# Altium schematic symbol library thesis.SchLib: 33 symbols
Pins are listed as number, name and electrical type; pins without a type are passive.

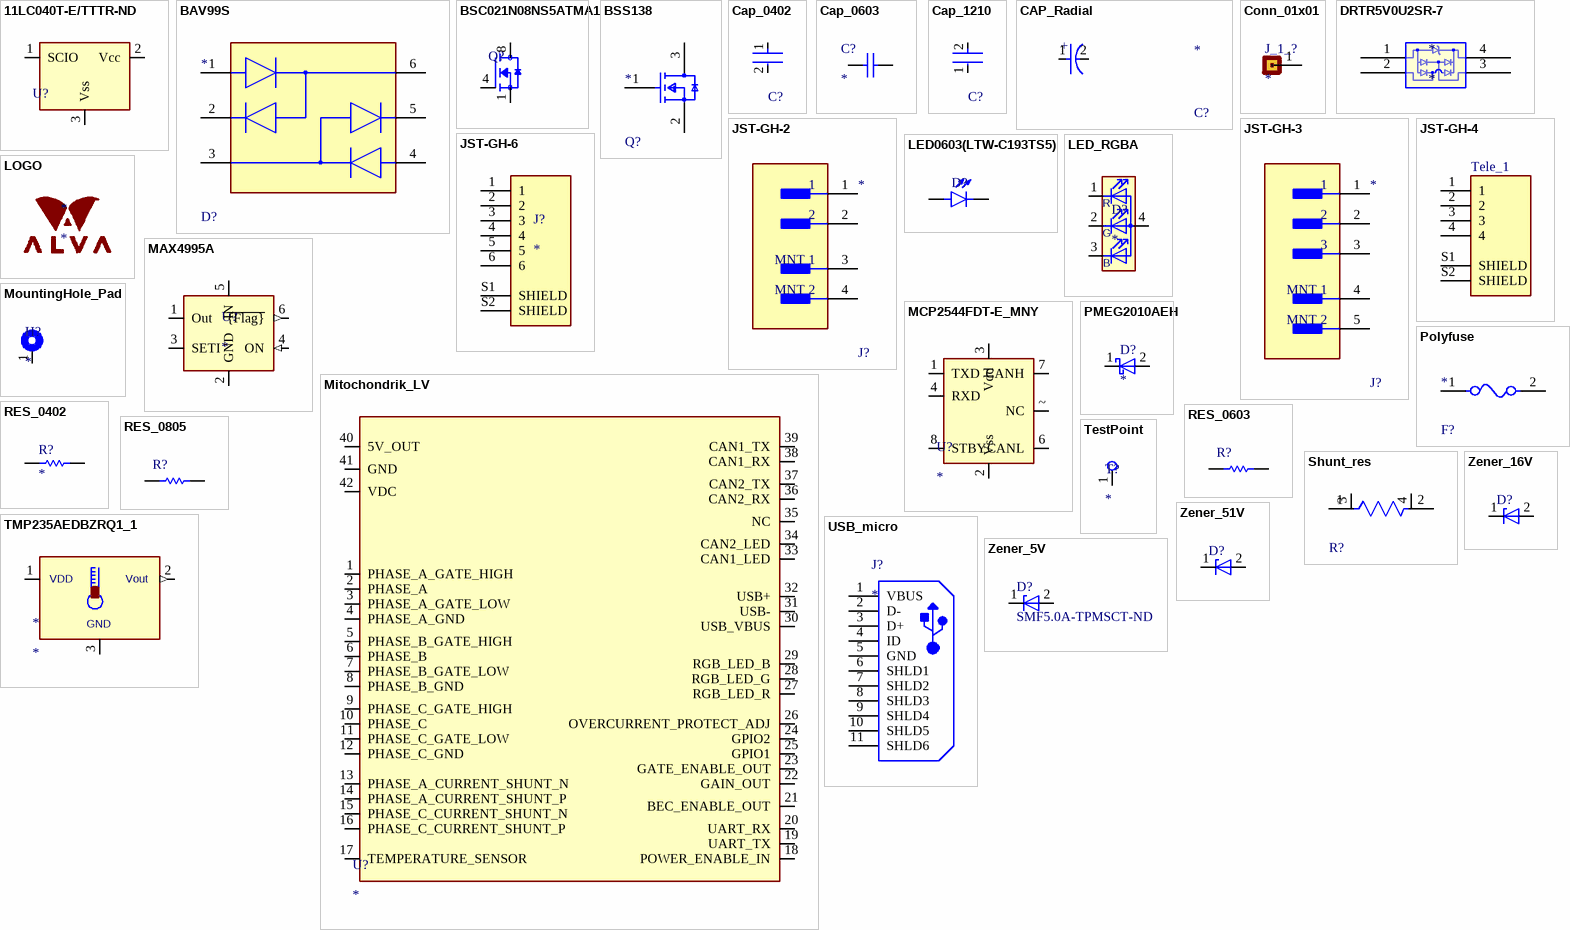
[diagram p0: symbols 11LC040T-E/TTTR-ND to Zener_51V]

## 11LC040T-E/TTTR-ND
designator U?  (value not drawn)
EEPROM, 512X8, Serial, CMOS, PDSO3; Manufacturer: Microchip; Manufacturer Part Number: 11LC040T-E/TT; Package Body Material: Plastic; Clock Frequency-Max (fCLK): 1MHz; Data Retention Time-Min: 200; Endurance: 1000000Cycles; Density: 4096b; Memory Width: 8; Number of Functions: 1; Number of Words: 512; Operating Mode: SYNCHRONOUS; Package Equivalence Code: TO-236; Power Supplies: 3/5V; Serial Bus Type: 1-WIRE; Standby Current-Max: 5uA; Supply Voltage-Max (Vsup): 5.5V; Supply Voltage-Min (Vsup): 2.5V; Supply Voltage-Nom (Vsup): 5V; Time @ Peak Reflow Temperature-Max (s): 40s; Write Cycle Time-Max (tWC): 10ms; Write Protection: SOFTWARE; Qualification Status: Not Qualified; Supplier 1: Digi-Key; RoHS: Yes; Category: EEPROM; Pricing 1: 1=0,36000 (USD); Package Code: TSSOP; Number of Pins: 3; Package Shape: Rectangular; Terminal Finish: Tin; Min Operating Temperature: -40°C; Max Operating Temperature: 125°C; JESD-609 Code: e3; Memory Type: EEPROM; JESD-30 Code: R-PDSO-G3; Moisture Sensitivity Level: 1; Organization: 512X8; Package Style: SMALL OUTLINE, THIN PROFILE, SHRINK PITCHMeter; Parallel/Serial: SERIAL; Peak Reflow Temperature (Cel): 260°C; Max Supply Current: 5uA; Surface Mount: Yes; Technology: CMOS; Terminal Form: Gull Wing; Terminal Position: DUAL; Length: 2.9mm; Width: 1.3mm; Height - Seated (Max): 1.12mm; Terminal Pitch: 0.95mm; Temperature Grade: AUTOMOTIVE; REACH SVHC: Yes; RoHS Compliant: Yes; ComponentLink1URL: https://datasheet.ciiva.com:443/pdfs/VipMasterIC/IC/MCHP/MCHPS03438/MCHPS03438-1.pdf?src-supplier=IHS+Markit; ComponentLink1Description: https://datasheet.ciiva.com:443/pdfs/VipMasterIC/IC/MCHP/MCHPS03438/MCHPS03438-1.pdf?src-supplier=IHS+Markit; ComponentLink2URL: https://datasheet.ciiva.com/1909/ds-22067h-1909327.pdf?src-supplier=Digi-Key; ComponentLink2Description: https://datasheet.ciiva.com/1909/ds-22067h-1909327.pdf?src-supplier=Digi-Key; Supplier Part Number 1: 11LC040T-E/TTDKR-ND
footprint 11LC040T-E/TTTR-ND (SOT23-3)
pins: 1 SCIO, 2 Vcc, 3 Vss

## BAV99S
designator D?
Rectifier Diode, 4 Element, 0.2A, 85V V(RRM), Silicon; Manufacturer: Infineon; Manufacturer Part Number: BAV99S; Package Body Material: Plastic; Number of Elements: 4; Max Output Current: 200mA; Max Power Dissipation: 250mW; Reverse Recovery Time-Max: 0.004us; Forward Voltage-Max (VF): 1.25V; Max Reverse Current: 2.5uA; Reverse Test Voltage: 70V; Qualification Status: Not Qualified; Supplier 1: Digi-Key; RoHS: Yes; Category: Rectifier Diodes; Pricing 1: 1=0,50000, 10=0,37900, 100=0,23600, 500=0,16146, 1000=0,12420 (USD); Number of Pins: 6; Diode Element Material: SILICON; Package Shape: Rectangular; Terminal Finish: Tin; Min Operating Temperature: -65°C; Max Operating Temperature: 150°C; JESD-609 Code: e3; Diode Type: RECTIFIER; JESD-30 Code: R-PDSO-G6; Package Style: SMALL OUTLINEMeter; Rep Pk Reverse Voltage-Max: 85V; Surface Mount: Yes; Terminal Form: Gull Wing; Terminal Position: DUAL; Moisture Sensitivity Level: 1; Peak Reflow Temperature (Cel): 260°C; REACH SVHC: Yes; RoHS Compliant: Yes; ComponentLink1URL: https://datasheet.ciiva.com:443/pdfs/VipMasterIC/IC/INFN/INFNS11225/INFNS11225-1.pdf?src-supplier=IHS+Markit; ComponentLink1Description: https://datasheet.ciiva.com:443/pdfs/VipMasterIC/IC/INFN/INFNS11225/INFNS11225-1.pdf?src-supplier=IHS+Markit; ComponentLink2URL: https://datasheet.ciiva.com/5833/45911-5833673.pdf?src-supplier=Farnell; ComponentLink2Description: https://datasheet.ciiva.com/5833/45911-5833673.pdf?src-supplier=Farnell; ComponentLink3URL: https://datasheet.ciiva.com/1180/45911-1180780.pdf?src-supplier=Element14; ComponentLink3Description: https://datasheet.ciiva.com/1180/45911-1180780.pdf?src-supplier=Element14; Supplier Part Number 1: BAV99SH6327XTSA1DKR-ND
footprint BAV99S
pins: 1 anode(diode 1), 2 cathode(diode 2), 3 cathode(diode 3)/anode(diode 4), 4 anode(diode 3), 5 cathode(diode 4), 6 cathode(diode 1)/anode(diode 2)

## BSC021N08NS5ATMA1
designator Q?  (value not drawn)
N-Channel 80V 100A (Tc) 214W (Tc) Surface Mount PG-TSON-8-3; Manufacturer: Infineon; Manufacturer Part Number: BSC021N08NS5ATMA1; Supplier 1: Digi-Key; RoHS: No; Pricing 1: 1=5,19000, 10=4,65800, 100=3,81650, 500=3,26200 (USD); Supplier Part Number 1: 448-BSC021N08NS5ATMA1CT-ND
footprint BSC021N08NS5ATMA1 (Mosfet_esc)
footprint BSC021N08NS5ATMA1 - duplicate (Mosfet_esc)
pins: 1 S, 4 G, 8 D

## BSS138
designator Q?
Small Signal Field-Effect Transistor, 0.28A I(D), 60V, 1-Element, N-Channel, Silicon, Metal-oxide Semiconductor FET; Manufacturer: Infineon; Manufacturer Part Number: BSS138WH6433XTMA1; Package Body Material: Plastic; Drain Current-Max (ID): 280mA; Drain-source On Resistance-Max: 3.5R; Feedback Cap-Max (Crss): 4.2pF; Number of Elements: 1; Operating Mode: ENHANCEMENT MODE; Reference Standard: AEC-Q101; Supplier 1: Digi-Key; RoHS: Yes; Category: MOSFETs; Stock 1: 10000; Pricing 1: 1=0,44000, 10=0,32800, 100=0,18590, 500=0,12312, 1000=0,09439, 2000=0,08208, 5000=0,07387 (USD); Number of Pins: 3; Package Shape: Rectangular; Transistor Element Material: SILICON; Polarity/Channel Type: N-CHANNEL; DS Breakdown Voltage-Min: 60V; FET Technology: METAL-OXIDE SEMICONDUCTOR; JESD-30 Code: R-PDSO-G3; Package Style: SMALL OUTLINEMeter; Surface Mount: Yes; Terminal Form: Gull Wing; Terminal Position: DUAL; REACH SVHC: Yes; RoHS Compliant: Yes; ComponentLink1URL: https://datasheet.ciiva.com:443/pdfs/VipMasterIC/IC/INFN/INFNS17556/INFNS17556-1.pdf?src-supplier=IHS+Markit; ComponentLink1Description: https://datasheet.ciiva.com:443/pdfs/VipMasterIC/IC/INFN/INFNS17556/INFNS17556-1.pdf?src-supplier=IHS+Markit; ComponentLink2URL: https://datasheet.ciiva.com/11174/infineon-bss138w-ds-v02-43-en-11174480.pdf?src-supplier=Avnet; ComponentLink2Description: https://datasheet.ciiva.com/11174/infineon-bss138w-ds-v02-43-en-11174480.pdf?src-supplier=Avnet; Supplier Part Number 1: BSS138WH6433XTMA1CT-ND
footprint BSS138
pins: 1 G, 2 S, 3 D

## Cap_0402
designator C?  (value not drawn)
Capacitor
footprint Cap_0402
pins: 1, 2

## Cap_0603
designator C?
Chip Capacitor
footprint CAP_0603
pins: 1, 2

## Cap_1210
designator C?  (value not drawn)
Capacitor
footprint Cap_1210
pins: 1, 2

## CAP_Radial
designator C?
Aluminum Electrolytic Capacitor, Polarized, Aluminum (wet), 63V, 20% +Tol, 20% -Tol, 470uF, Through Hole Mount; Manufacturer: Panasonic; Manufacturer Part Number: ECA1JM471; Dielectric Material: Aluminium; Leakage Current: 296.1uA; Ripple Current: 750mA; Tan Delta: 0.11; Supplier 1: Digi-Key; RoHS: Yes; Category: Aluminum Electrolytic Capacitors; Pricing 1: 1=1,05000, 10=0,79500, 50=0,66020, 100=0,56850, 500=0,44010, 1000=0,37898, 2500=0,35452, 5000=0,33619 (USD); Mount: Through Hole; Number of Pins: 2; Package Shape: Cylindrical; Terminal Finish: Tin; Min Operating Temperature: -40°C; Max Operating Temperature: 85°C; JESD-609 Code: e3; Polarity: Polarized; Capacitance: 470uF; Capacitor Type: Aluminium; Negative Tolerance: 20%; Package Style: RadialMeter; Packaging: Bulk; Positive Tolerance: 20%; Rated DC Voltage (URdc): 63V; Termination: Wire; Diameter: 12.5mm; Length: 20mm; Terminal Pitch: 5mm; REACH SVHC: Yes; RoHS Compliant: Yes; ComponentLink1URL: https://datasheet.ciiva.com:443/pdfs/VipMasterIC/IC/PANA/PANA-S-A0009459698/PANA-S-A0009459698-1.pdf?src-supplier=IHS+Markit; ComponentLink1Description: https://datasheet.ciiva.com:443/pdfs/VipMasterIC/IC/PANA/PANA-S-A0009459698/PANA-S-A0009459698-1.pdf?src-supplier=IHS+Markit; ComponentLink2URL: https://datasheet.ciiva.com/11778/0900766b800274c2-11778050.pdf?src-supplier=RSComponents; ComponentLink2Description: https://datasheet.ciiva.com/11778/0900766b800274c2-11778050.pdf?src-supplier=RSComponents; ComponentLink3URL: https://datasheet.ciiva.com/48520/radial-m-eng-tds-48520521.pdf?src-supplier=Distrelec; ComponentLink3Description: https://datasheet.ciiva.com/48520/radial-m-eng-tds-48520521.pdf?src-supplier=Distrelec; ComponentLink4URL: https://datasheet.ciiva.com/14604/70067785-14604554.pdf?src-supplier=Allied+Electronics; ComponentLink4Description: https://datasheet.ciiva.com/14604/70067785-14604554.pdf?src-supplier=Allied+Electronics; ComponentLink5URL: https://datasheet.ciiva.com/43485/84340-43485354.pdf?src-supplier=Farnell; ComponentLink5Description: https://datasheet.ciiva.com/43485/84340-43485354.pdf?src-supplier=Farnell; ComponentLink6URL: https://datasheet.ciiva.com/46396/84340-46396590.pdf?src-supplier=Element14; ComponentLink6Description: https://datasheet.ciiva.com/46396/84340-46396590.pdf?src-supplier=Element14; ComponentLink7URL: https://datasheet.ciiva.com/11679/aba0000ce12-11679422.pdf?src-supplier=Avnet; ComponentLink7Description: https://datasheet.ciiva.com/11679/aba0000ce12-11679422.pdf?src-supplier=Avnet; ComponentLink8URL: https://datasheet.ciiva.com/16213/aba0000ce12-16213261.pdf?src-supplier=Future+Electronics; ComponentLink8Description: https://datasheet.ciiva.com/16213/aba0000ce12-16213261.pdf?src-supplier=Future+Electronics; Supplier Part Number 1: P5196-ND
footprint Cap_alu_liggende (12.5mm Diameter)
footprint Cap_radial
pins: 1, 2
text: +

## Conn_01x01
designator J_1_?
Connector 01x01
footprint Conn_01x01
pins: 1

## DRTR5V0U2SR-7
designator *
Trans Voltage Suppressor Diode, 5.5V V(RWM), Unidirectional, 1 Element, Silicon; Manufacturer: Diodes; Manufacturer Part Number: DRTR5V0U2SR-7; Package Body Material: Plastic; Max Breakdown Voltage: 9V; Min Breakdown Voltage: 6V; Number of Elements: 1; Max Power Dissipation: 400mW; Additional Feature: HIGH RELIABILITY; Reference Standard: AEC-Q101; Supplier 1: Digi-Key; RoHS: Yes; Category: TVS Diodes; Stock 1: 102426; Pricing 1: 1=0,40000, 10=0,32300, 100=0,22000, 500=0,16500, 1000=0,12375 (USD); Number of Pins: 4; Diode Element Material: SILICON; Package Shape: Rectangular; Terminal Finish: Tin; Min Operating Temperature: -65°C; Max Operating Temperature: 150°C; JESD-609 Code: e3; Polarity: Unidirectional; Diode Type: TRANS VOLTAGE SUPPRESSOR; JESD-30 Code: R-PDSO-G4; Moisture Sensitivity Level: 1; Package Style: SMALL OUTLINEMeter; Rep Pk Reverse Voltage-Max: 5.5V; Surface Mount: Yes; Technology: AVALANCHE; Terminal Form: Gull Wing; Terminal Position: DUAL; REACH SVHC: Yes; RoHS Compliant: Yes; ComponentLink1URL: https://datasheet.ciiva.com:443/pdfs/VipMasterIC/IC/DIOD/DIODS20209/DIODS20209-1.pdf?src-supplier=IHS+Markit; ComponentLink1Description: https://datasheet.ciiva.com:443/pdfs/VipMasterIC/IC/DIOD/DIODS20209/DIODS20209-1.pdf?src-supplier=IHS+Markit; ComponentLink2URL: https://datasheet.ciiva.com/29588/drtr5v0u2sr-29588600.pdf?src-supplier=Digi-Key; ComponentLink2Description: https://datasheet.ciiva.com/29588/drtr5v0u2sr-29588600.pdf?src-supplier=Digi-Key; ComponentLink3URL: https://datasheet.ciiva.com/48480/drtr5v0u2sr-48480031.pdf?src-supplier=Avnet; ComponentLink3Description: https://datasheet.ciiva.com/48480/drtr5v0u2sr-48480031.pdf?src-supplier=Avnet; ComponentLink4URL: https://datasheet.ciiva.com/29588/drtr5v0u2sr-29588602.pdf?src-supplier=Digi-Key; ComponentLink4Description: https://datasheet.ciiva.com/29588/drtr5v0u2sr-29588602.pdf?src-supplier=Digi-Key; Supplier Part Number 1: DRTR5V0U2SR-7DICT-ND
footprint DRTR5V0OU2SR-7 (SOT143_DIO)
pins: 1, 2, 3, 4

## JST-GH-2
designator J?
Connector Header, GH Series, 2 Position, 1.25mm, 50V, Surface Mount, Locking Ramp, Natural; Manufacturer: JST; Manufacturer Part Number: BM02B-GHS-TBT(LF)(SN)(N); Supplier 1: Digi-Key; RoHS: Yes; Category: Connectors; Pricing 1: 1=0,40000, 10=0,33900, 100=0,26400, 500=0,22628, 1000=0,18856 (USD); ComponentLink1URL: http://www.jst-mfg.com/product/pdf/eng/eGH.pdf?src-supplier=Digi-Key; ComponentLink1Description: http://www.jst-mfg.com/product/pdf/eng/eGH.pdf?src-supplier=Digi-Key; Supplier Part Number 1: 455-1578-6-ND
footprint JST-GH-2 (FP-BM02B-GHS-TBT_LF_SN-MFG)
pins: 1, 2, 3 MNT 1, 4 MNT 2

## JST-GH-3
designator J?
Connector Header, GH Series, 3 Position, 1.25mm, 50V, Surface Mount, Locking Ramp, Natural; Manufacturer: JST; Manufacturer Part Number: BM03B-GHS-TBT(LF)(SN)(N); Supplier 1: Digi-Key; RoHS: Yes; Category: Connectors; Pricing 1: 1=0,44000, 10=0,37800, 100=0,29400, 500=0,25196, 1000=0,20997 (USD); ComponentLink1URL: https://datasheet.ciiva.com/730/egh-730628.pdf?src-supplier=Digi-Key; ComponentLink1Description: https://datasheet.ciiva.com/730/egh-730628.pdf?src-supplier=Digi-Key; Supplier Part Number 1: 455-1579-1-ND
footprint JST-GH-3 (FP-BM03B-GHS-TBT_LF_SN-MFG)
pins: 1, 2, 3, 4 MNT 1, 5 MNT 2

## JST-GH-4
designator Tele_1  (value not drawn)
Conn Shrouded Header HDR 4 POS 1.25mm Solder ST Top Entry SMD T/R; Manufacturer: JST; Manufacturer Part Number: BM04B-GHS-TBT(LF)(SN)(N); Supplier 1: Digi-Key; RoHS: Yes; Category: Headers and Wire Housings; Pricing 1: 1=0,47000, 10=0,40400, 100=0,31390, 500=0,26908, 1000=0,22423 (USD); ComponentLink1URL: http://www.jst-mfg.com/product/pdf/eng/eGH.pdf?src-supplier=Digi-Key; ComponentLink1Description: http://www.jst-mfg.com/product/pdf/eng/eGH.pdf?src-supplier=Digi-Key; ComponentLink2URL: http://www.jst-mfg.com/product/pdf/eng/eGH.pdf?src-supplier=Component+Distributors+Inc.; ComponentLink2Description: http://www.jst-mfg.com/product/pdf/eng/eGH.pdf?src-supplier=Component+Distributors+Inc.; Supplier Part Number 1: 455-1580-1-ND
footprint JST-GH-4
pins: 1, 2, 3, 4, S1 SHIELD, S2 SHIELD

## JST-GH-6
designator J?
conn 6
footprint JST-GH-6
pins: 1, 2, 3, 4, 5, 6, S1 SHIELD, S2 SHIELD

## LED0603(LTW-C193TS5)
designator D?  (value not drawn)
White LED Indication - Discrete 2.93V 0603 (1608 Metric)
footprint LED0603
pins: A, C

## LED_RGBA
designator D?
LED RGB 0606 SMD; Manufacturer: Dialight; Manufacturer Part Number: 5977715607F; Supplier 1: Digi-Key; RoHS: No; Stock 1: 6970; Pricing 1: 1=0,70000, 10=0,46200, 100=0,30540, 1000=0,23579, 2000=0,21306 (USD); ComponentLink1URL: http://www.dialightsignalsandcomponents.com/Assets/Drawings/2D_Drawings_DrawingDetailedSpec/NewDrawings/597%20Series_0418/597%20Series%20SMD%200606Tri%205mA%20Zener%20Detailed%20Spec%20.pdf?src-supplier=Digi-Key; ComponentLink1Description: http://www.dialightsignalsandcomponents.com/Assets/Drawings/2D_Drawings_DrawingDetailedSpec/NewDrawings/597%20Series_0418/597%20Series%20SMD%200606Tri%205mA%20Zener%20Detailed%20Spec%20.pdf?src-supplier=Digi-Key; Supplier Part Number 1: 350-4396-1-ND
footprint LED_0606
pins: 1 RK, 2 GK, 3 BK, 4 A
text: R; G; B

## LOGO
designator *
ALVA

## MAX4995A
designator U?
Analog Circuit, 1 Func, BICMOS, PDSO6; Manufacturer: Maxim; Manufacturer Part Number: MAX4995AAUT+T; Package Body Material: Plastic; Number of Functions: 1; Power Supplies: 1.8/5V; Supply Current-Max (Isup): 300uA; Supply Voltage-Max (Vsup): 5.5V; Supply Voltage-Min (Vsup): 1.7V; Supply Voltage-Nom (Vsup): 3.3V; Package Equivalence Code: TSOP6,.11,37; Qualification Status: Not Qualified; Supplier 1: Digi-Key; RoHS: Yes; Category: Power Management ICs; Package Code: LSSOP; Number of Pins: 6; Package Shape: Rectangular; Terminal Finish: Nickel; Min Operating Temperature: -40°C; Max Operating Temperature: 125°C; Analog IC - Other Type: ANALOG CIRCUIT; Moisture Sensitivity Level: 1; Package Style: SMALL OUTLINE, LOW PROFILE, SHRINK PITCHMeter; Surface Mount: Yes; Technology: BICMOS; Terminal Form: Gull Wing; Terminal Position: DUAL; JESD-609 Code: e4; Peak Reflow Temperature (Cel): 260°C; JESD-30 Code: R-PDSO-G6; Length: 2.9mm; Width: 1.625mm; Height - Seated (Max): 1.45mm; Terminal Pitch: 0.95mm; Temperature Grade: AUTOMOTIVE; REACH SVHC: Yes; RoHS Compliant: Yes; ComponentLink1URL: https://datasheet.ciiva.com:443/pdfs/VipMasterIC/IC/MAXM/MAXM-S-A0009149963/MAXM-S-A0009149963-1.pdf?src-supplier=IHS+Markit; ComponentLink1Description: https://datasheet.ciiva.com:443/pdfs/VipMasterIC/IC/MAXM/MAXM-S-A0009149963/MAXM-S-A0009149963-1.pdf?src-supplier=IHS+Markit; ComponentLink2URL: https://datasheet.ciiva.com/3216/max4995a-max4995c-3216988.pdf?src-supplier=Avnet; ComponentLink2Description: https://datasheet.ciiva.com/3216/max4995a-max4995c-3216988.pdf?src-supplier=Avnet; ComponentLink3URL: https://datasheet.ciiva.com/1940/max4995a-max4995c-1940219.pdf?src-supplier=Digi-Key; ComponentLink3Description: https://datasheet.ciiva.com/1940/max4995a-max4995c-1940219.pdf?src-supplier=Digi-Key; Supplier Part Number 1: MAX4995AAUT+CT-ND
footprint MAX4995AAUT+T
pins: 1 Out (power), 2 GND (power), 3 SETI (power), 4 ON (in), 5 IN (power), 6 ~{{Flag}} (out)

## MCP2544FDT-E_MNY
designator U?
Interface Circuit, PDSO8; Manufacturer: Microchip; Manufacturer Part Number: MCP2544FDT-E/MNY; Package Body Material: Plastic; Number of Functions: 1; Supply Voltage-Nom: 5V; Supplier 1: Digi-Key; RoHS: Yes; Category: Interface ICs; Pricing 1: 1=1,09000, 25=0,91160, 100=0,82680 (USD); Package Code: HVSON; Number of Pins: 8; Package Shape: Rectangular; Terminal Finish: Nickel; Min Operating Temperature: -40°C; Max Operating Temperature: 125°C; JESD-609 Code: e4; JESD-30 Code: R-PDSO-N8; Package Style: SMALL OUTLINE, HEAT SINK/SLUG, VERY THIN PROFILEMeter; Surface Mount: Yes; Telecom IC Type: INTERFACE CIRCUIT; Terminal Form: No Lead; Terminal Position: DUAL; Length: 3mm; Width: 2mm; Height - Seated (Max): 0.8mm; Terminal Pitch: 0.5mm; Temperature Grade: AUTOMOTIVE; REACH SVHC: Yes; RoHS Compliant: Yes; ComponentLink1URL: https://datasheet.ciiva.com:443/pdfs/VipMasterIC/IC/MCHP/MCHP-S-A0008004102/MCHP-S-A0008004102-1.pdf?src-supplier=IHS+Markit; ComponentLink1Description: https://datasheet.ciiva.com:443/pdfs/VipMasterIC/IC/MCHP/MCHP-S-A0008004102/MCHP-S-A0008004102-1.pdf?src-supplier=IHS+Markit; ComponentLink2URL: http://www.microchip.com/mymicrochip/filehandler.aspx?ddocname=en585412&src-supplier=Digi-Key; ComponentLink2Description: http://www.microchip.com/mymicrochip/filehandler.aspx?ddocname=en585412&src-supplier=Digi-Key; Supplier Part Number 1: MCP2544FDT-E/MNYDKR-ND
footprint MCP2544FDT-E_MNY
pins: 1 TXD, 2 Vss, 3 Vdd, 4 RXD, 6 CANL, 7 CANH, 8 STBY, ~ NC

## Mitochondrik_LV
designator U?
Mitochondrik
footprint Mitochondrik_LV
pins: 1 PHASE_A_GATE_HIGH, 2 PHASE_A, 3 PHASE_A_GATE_LOW, 4 PHASE_A_GND, 5 PHASE_B_GATE_HIGH, 6 PHASE_B, 7 PHASE_B_GATE_LOW, 8 PHASE_B_GND, 9 PHASE_C_GATE_HIGH, 10 PHASE_C, 11 PHASE_C_GATE_LOW, 12 PHASE_C_GND, 13 PHASE_A_CURRENT_SHUNT_N, 14 PHASE_A_CURRENT_SHUNT_P, 15 PHASE_C_CURRENT_SHUNT_N, 16 PHASE_C_CURRENT_SHUNT_P, 17 TEMPERATURE_SENSOR, 18 POWER_ENABLE_IN, 19 UART_TX, 20 UART_RX, 21 BEC_ENABLE_OUT, 22 GAIN_OUT, 23 GATE_ENABLE_OUT, 24 GPIO2, 25 GPIO1, 26 OVERCURRENT_PROTECT_ADJ, 27 RGB_LED_R, 28 RGB_LED_G, 29 RGB_LED_B, 30 USB_VBUS, 31 USB-, 32 USB+, 33 CAN1_LED, 34 CAN2_LED, 35 NC, 36 CAN2_RX, 37 CAN2_TX, 38 CAN1_RX, 39 CAN1_TX, 40 5V_OUT, 41 GND, 42 VDC

## MountingHole_Pad
designator H?
Mounting hole
footprint Mounting_holes
pins: 1

## PMEG2010AEH
designator D?
Rectifier Diode, Schottky, 1 Phase, 1 Element, 1A, Silicon; Manufacturer: Nexperia; Manufacturer Part Number: PMEG2010AEH,115; Package Body Material: Plastic; Number of Elements: 1; Max Power Dissipation: 830mW; Time @ Peak Reflow Temperature-Max (s): 30s; Reference Standard: IEC-60134; Supplier 1: Digi-Key; RoHS: Yes; Category: Rectifier Diodes; Pricing 1: 1=0,41000, 10=0,30500, 100=0,17290, 500=0,11452, 1000=0,08779 (USD); Number of Pins: 2; Diode Element Material: SILICON; Package Shape: Rectangular; Terminal Finish: Tin; Max Operating Temperature: 150°C; JESD-609 Code: e3; Diode Type: RECTIFIER; JESD-30 Code: R-PDSO-F2; Moisture Sensitivity Level: 1; Max Output Current: 1A; Package Style: SMALL OUTLINEMeter; Peak Reflow Temperature (Cel): 260°C; Surface Mount: Yes; Technology: SCHOTTKY; Terminal Form: Flat; Terminal Position: DUAL; REACH SVHC: Yes; RoHS Compliant: Yes; ComponentLink1URL: https://datasheet.ciiva.com:443/pdfs/VipMasterIC/IC/NEXP/NEXP-S-A0006011475/NEXP-S-A0006011475-1.pdf?src-supplier=IHS+Markit; ComponentLink1Description: https://datasheet.ciiva.com:443/pdfs/VipMasterIC/IC/NEXP/NEXP-S-A0006011475/NEXP-S-A0006011475-1.pdf?src-supplier=IHS+Markit; ComponentLink2URL: http://www.farnell.com/datasheets/109656.pdf?src-supplier=Farnell; ComponentLink2Description: http://www.farnell.com/datasheets/109656.pdf?src-supplier=Farnell; ComponentLink3URL: https://assets.nexperia.com/documents/data-sheet/PMEG2010AEH_PMEG2010AET.pdf?src-supplier=Digi-Key; ComponentLink3Description: https://assets.nexperia.com/documents/data-sheet/PMEG2010AEH_PMEG2010AET.pdf?src-supplier=Digi-Key; Supplier Part Number 1: 1727-3856-1-ND
footprint PMEG2010AEH (SOD-123F)
pins: 1 K, 2 A

## Polyfuse
designator F?
PTC Resettable Fuse, 60V, Surface Mount; Manufacturer: Bourns; Manufacturer Part Number: MF-MSMF014-2; Rated Power Dissipation (P): 800mW; Rated Temperature: 85°C; Thermistor Application: OVERLOAD PROTECTION; Package Height: 1.1mm; Package Length: 4.73mm; Package Width: 3.41mm; Reference Standard: AEC-Q200; Supplier 1: Digi-Key; RoHS: Yes; Category: Fuses; Stock 1: 40; Pricing 1: 1=0,32000, 5=0,31000, 10=0,29500, 50=0,26360, 100=0,24540, 250=0,21816, 500=0,18180 (USD); Mount: Surface Mount; Number of Pins: 2; Package Shape: Rectangular; Terminal Finish: Nickel; Min Operating Temperature: -40°C; Max Operating Temperature: 85°C; JESD-609 Code: e4; Resistor Type: PTC RESETTABLE FUSE; Package Style: SMTMeter; Packaging: Tape and Reel; Rated AC Voltage (URac): 60V; Terminal Placement: Dual Ended; Termination: Wraparound; REACH SVHC: Yes; RoHS Compliant: Yes; ComponentLink1URL: https://datasheet.ciiva.com:443/pdfs/VipMasterIC/IC/BOUR/BOUR-S-A0007011521/BOUR-S-A0007011521-1.pdf?src-supplier=IHS+Markit; ComponentLink1Description: https://datasheet.ciiva.com:443/pdfs/VipMasterIC/IC/BOUR/BOUR-S-A0007011521/BOUR-S-A0007011521-1.pdf?src-supplier=IHS+Markit; ComponentLink2URL: https://datasheet.ciiva.com/326/mfmsmf-326400.pdf?src-supplier=Avnet; ComponentLink2Description: https://datasheet.ciiva.com/326/mfmsmf-326400.pdf?src-supplier=Avnet; ComponentLink3URL: https://datasheet.ciiva.com/19479/1164162-19479036.pdf?src-supplier=Jameco; ComponentLink3Description: https://datasheet.ciiva.com/19479/1164162-19479036.pdf?src-supplier=Jameco; ComponentLink4URL: https://datasheet.ciiva.com/14539/70153434-14539176.pdf?src-supplier=Allied+Electronics; ComponentLink4Description: https://datasheet.ciiva.com/14539/70153434-14539176.pdf?src-supplier=Allied+Electronics; ComponentLink5URL: https://datasheet.ciiva.com/1274/1786007-1274476.pdf?src-supplier=Element14; ComponentLink5Description: https://datasheet.ciiva.com/1274/1786007-1274476.pdf?src-supplier=Element14; ComponentLink6URL: https://datasheet.ciiva.com/1274/1786007-1274492.pdf?src-supplier=Element14; ComponentLink6Description: https://datasheet.ciiva.com/1274/1786007-1274492.pdf?src-supplier=Element14; ComponentLink7URL: https://datasheet.ciiva.com/3019/mfmsmf-3019615.pdf?src-supplier=Avnet; ComponentLink7Description: https://datasheet.ciiva.com/3019/mfmsmf-3019615.pdf?src-supplier=Avnet; ComponentLink8URL: https://datasheet.ciiva.com/326/mfmsmf-326761.pdf?src-supplier=Digi-Key; ComponentLink8Description: https://datasheet.ciiva.com/326/mfmsmf-326761.pdf?src-supplier=Digi-Key; ComponentLink9URL: https://datasheet.ciiva.com/326/mfmsmf-326762.pdf?src-supplier=Digi-Key; ComponentLink9Description: https://datasheet.ciiva.com/326/mfmsmf-326762.pdf?src-supplier=Digi-Key; ComponentLink10URL: https://datasheet.ciiva.com/326/mfmsmf-326760.pdf?src-supplier=Digi-Key; ComponentLink10Description: https://datasheet.ciiva.com/326/mfmsmf-326760.pdf?src-supplier=Digi-Key; Supplier Part Number 1: MF-MSMF014-2CT-ND
footprint Polyfuse
pins: 1, 2

## RES_0402
designator R?
Resistor 0402
footprint RES_0402 (Chip Resistor, 2-Leads, Body 1.00x0.50mm, IPC Low Density)
pins: 1, 2
1 alternate drawing of the same symbol

## RES_0603
designator R?  (value not drawn)
Chip Resistor
footprint Res_0603
pins: 1, 2

## RES_0805
designator R?  (value not drawn)
Chip Resistor
footprint RES_0805
pins: 1, 2

## Shunt_res
designator R?  (value not drawn)
Fixed Resistor, Metal Strip, 3W, 0.002ohm, 0.077V, 1% +/-Tol, 275ppm/Cel, Surface Mount, 2512; Manufacturer: Vishay Dale; Manufacturer Part Number: WSLP25122L000FEA; Rated Temperature: 70°C; Resistance: 2mR; Temperature Coefficient: 275ppm/°C; Package Height: 0.635mm; Package Length: 6.35mm; Package Width: 3.18mm; Reference Standard: AEC-Q200; Supplier 1: Digi-Key; RoHS: Yes; Category: Chip SMD Resistors; Stock 1: 1860; Pricing 1: 1=1,82000, 10=1,61300, 25=1,49560, 50=1,40760, 100=1,23160, 250=1,05568, 500=0,87976, 1000=0,79764 (USD); Mount: Surface Mount; Number of Pins: 2; Package Shape: Rectangular; Size Code: 2512; Terminal Finish: Nickel; Min Operating Temperature: -65°C; Max Operating Temperature: 170°C; Tolerance: 1%; JESD-609 Code: e3; Resistor Type: FIXED RESISTOR; Construction: Chip; Package Style: SMTMeter; Packaging: Tape and Reel; Rated Power Dissipation (P): 3W; Technology: METAL STRIP; Termination: Wraparound; REACH SVHC: Yes; RoHS Compliant: Yes; ComponentLink1URL: https://datasheet.ciiva.com:443/pdfs/VipMasterIC/IC/VISH/VISH-S-A0009590861/VISH-S-A0009590861-1.pdf?src-supplier=IHS+Markit; ComponentLink1Description: https://datasheet.ciiva.com:443/pdfs/VipMasterIC/IC/VISH/VISH-S-A0009590861/VISH-S-A0009590861-1.pdf?src-supplier=IHS+Markit; ComponentLink2URL: https://datasheet.ciiva.com/48527/wslp-48527354.pdf?src-supplier=Avnet; ComponentLink2Description: https://datasheet.ciiva.com/48527/wslp-48527354.pdf?src-supplier=Avnet; Supplier Part Number 1: 541-10148-1-ND
footprint Shunt_res
pins: 1, 2, 3, 4 3

## TestPoint
designator T?
Testpoint
footprint Testpoint
pins: 1

## TMP235AEDBZRQ1_1
designator *
Analog Voltage Output Sensor, 500uA, 2.50Cel, Rectangular, Surface Mount; Manufacturer: Texas Instruments; Manufacturer Part Number: TMP235AEDBZRQ1; Supplier 1: Digi-Key; RoHS: Yes; Category: Integrated Circuits (ICs); Stock 1: 1926; Pricing 1: 1=0,67000, 5=0,63400, 10=0,55100, 25=0,48440, 50=0,40240, 100=0,34270, 500=0,29800, 1000=0,26075 (USD); ComponentLink1URL: https://www.ti.com:443/lit/ds/symlink/tmp235-q1.pdf?src-supplier=IHS+Markit; ComponentLink1Description: https://www.ti.com:443/lit/ds/symlink/tmp235-q1.pdf?src-supplier=IHS+Markit; Supplier Part Number 1: 296-TMP235AEDBZRQ1CT-ND
footprint TMP235AEDBZRQ1
pins: 1 (power), 2 (out), 3 (power)
text: VDD; Vout; GND

## USB_micro
designator J?
USB Connector, 5 Contact(s), Female, Right Angle, Surface Mount Terminal, Locking, Receptacle; Manufacturer: Molex; Manufacturer Part Number: 47589-0001; Connector Type: TELECOM AND DATACOM CONNECTOR; Option: General Purpose; Additional Feature: Shielded; Empty Shell: No; Number of Contacts: 5; Board Mounting Option: LOCATING POSTS; Durability: 10000Cycles; Number Of Connectors: 1; PCB Contact Pattern: RECTANGULAR; Polarization Key: POLARIZED HOUSING; Rated Current (Signal): 1.8A; Body Breadth: 0.118inch; Body Depth: 0.228inch; Body Length: 0.323inch; Reference Standard: UL; Reliability: COMMERCIAL; Supplier 1: Digi-Key; RoHS: Yes; Category: USB Connectors; Stock 1: 6196; Pricing 1: 1=0,82000, 10=0,67500, 100=0,56260 (USD); Mount: Cable; Contact Finish - Mating: NOT SPECIFIED; Shell Material: Stainless Steel; Contact Finish - Termination: GOLD/NICKEL (AU/NI); Insulation Material: Polymer; Shell Finish: Tin; Min Operating Temperature: -20°C; Max Operating Temperature: 85°C; JESD-609 Code: e4; Body/Shell Style: RECEPTACLE; Contact Gender: Female; Filter Feature: No; Mixed Contacts: No; Mounting Style: RIGHT ANGLE; Termination: SMD/SMT; Number Of PCB Rows: 1; Mounting Option 1: LOCKING; REACH SVHC: Yes; RoHS Compliant: Yes; DIN Conformance: No; IEC Conformance: No; MIL Conformance: No; ComponentLink1URL: https://datasheet.ciiva.com:443/pdfs/VipMasterIC/IC/MOLE/MOLE-S-A0003718320/MOLE-S-A0003718320-1.pdf?src-supplier=IHS+Markit; ComponentLink1Description: https://datasheet.ciiva.com:443/pdfs/VipMasterIC/IC/MOLE/MOLE-S-A0003718320/MOLE-S-A0003718320-1.pdf?src-supplier=IHS+Markit; ComponentLink2URL: https://datasheet.ciiva.com/16148/0475890001-io-connectors-16148921.pdf?src-supplier=Onlinecomponents.com; ComponentLink2Description: https://datasheet.ciiva.com/16148/0475890001-io-connectors-16148921.pdf?src-supplier=Onlinecomponents.com; ComponentLink3URL: https://datasheet.ciiva.com/15181/getdatasheetpartid-158670-15181214.pdf?src-supplier=Verical; ComponentLink3Description: https://datasheet.ciiva.com/15181/getdatasheetpartid-158670-15181214.pdf?src-supplier=Verical; ComponentLink4URL: https://datasheet.ciiva.com/11731/0900766b80dfe0a8-11731295.pdf?src-supplier=RSComponents; ComponentLink4Description: https://datasheet.ciiva.com/11731/0900766b80dfe0a8-11731295.pdf?src-supplier=RSComponents; ComponentLink5URL: https://datasheet.ciiva.com/1098/1597783-1098478.pdf?src-supplier=Element14; ComponentLink5Description: https://datasheet.ciiva.com/1098/1597783-1098478.pdf?src-supplier=Element14; ComponentLink6URL: https://datasheet.ciiva.com/32371/0475890001-io-connectors-32371755.pdf?src-supplier=Onlinecomponents.com; ComponentLink6Description: https://datasheet.ciiva.com/32371/0475890001-io-connectors-32371755.pdf?src-supplier=Onlinecomponents.com; Supplier Part Number 1: WM17143CT-ND
footprint USB_micro (SMD, 5-Leads, Body 7.5x5.6mm, Pitch 0.65mm)
pins: 1 VBUS, 2 D-, 3 D+, 4 ID, 5 GND, 6 SHLD1, 7 SHLD2, 8 SHLD3, 9 SHLD4, 10 SHLD5, 11 SHLD6

## Zener_5V
designator D?, comment SMF5.0A-TPMSCT-ND
Trans Voltage Suppressor Diode, 200W, 5V V(RWM), Unidirectional, 1 Element, Silicon; Manufacturer: MCC; Package Body Material: Plastic; Max Breakdown Voltage: 7V; Min Breakdown Voltage: 6.4V; Breakdown Voltage-Nom: 6.7V; Clamping Voltage-Max: 9.2V; Number of Elements: 1; Time @ Peak Reflow Temperature-Max (s): 10s; Qualification Status: Not Qualified; Supplier 1: Digi-Key; Manufacturer Part Number: SMF5.0A-TP; RoHS: Yes; Category: TVS Diodes; Stock 1: 83846; Pricing 1: 1=0,45000, 10=0,33600, 100=0,20900, 500=0,14300, 1000=0,11000 (USD); Number of Pins: 2; Diode Element Material: SILICON; Package Shape: Rectangular; Terminal Finish: Tin; JESD-609 Code: e3; Polarity: Unidirectional; Diode Type: TRANS VOLTAGE SUPPRESSOR; JESD-30 Code: R-PDSO-F2; Moisture Sensitivity Level: 1; Non-rep Peak Rev Power Dis-Max: 200W; Package Style: SMALL OUTLINEMeter; Peak Reflow Temperature (Cel): 260°C; Rep Pk Reverse Voltage-Max: 5V; Surface Mount: Yes; Technology: AVALANCHE; Terminal Form: Flat; Terminal Position: DUAL; REACH SVHC: No SVHC; RoHS Compliant: Yes; ComponentLink1URL: https://datasheet.ciiva.com:443/pdfs/VipMasterIC/IC/MCCC/MCCC-S-A0009835486/MCCC-S-A0009835486-1.pdf?src-supplier=IHS+Markit; ComponentLink1Description: https://datasheet.ciiva.com:443/pdfs/VipMasterIC/IC/MCCC/MCCC-S-A0009835486/MCCC-S-A0009835486-1.pdf?src-supplier=IHS+Markit; ComponentLink2URL: https://datasheet.ciiva.com/333/smf5-0170sod-123fl-333395.pdf?src-supplier=Digi-Key; ComponentLink2Description: https://datasheet.ciiva.com/333/smf5-0170sod-123fl-333395.pdf?src-supplier=Digi-Key; ComponentLink3URL: https://datasheet.ciiva.com/333/smf5-0170sod-123fl-333396.pdf?src-supplier=Digi-Key; ComponentLink3Description: https://datasheet.ciiva.com/333/smf5-0170sod-123fl-333396.pdf?src-supplier=Digi-Key; ComponentLink4URL: https://datasheet.ciiva.com/333/smf5-0170sod-123fl-333394.pdf?src-supplier=Digi-Key; ComponentLink4Description: https://datasheet.ciiva.com/333/smf5-0170sod-123fl-333394.pdf?src-supplier=Digi-Key; Supplier Part Number 1: SMF5.0A-TPMSCT-ND
footprint Zener_5V
pins: 1 B, 2 A

## Zener_16V
designator D?, comment BZD27C16PWHCT-ND  (value not drawn)
Manufacturer: Taiwan Semiconductor; Supplier 1: Digi-Key; Manufacturer Part Number: BZD27C16PWH; RoHS: No; Category: Zener Diodes; Stock 1: 1746; Pricing 1: 1=0,52000, 10=0,44700, 100=0,33350, 500=0,26202, 1000=0,20247 (USD); Supplier Part Number 1: BZD27C16PWHCT-ND
footprint Zener_16V
pins: 1 B, 2 A

## Zener_51V
designator D?, comment SMC5K51A-M3/IGICT-ND  (value not drawn)
Trans Voltage Suppressor Diode, 5000W, 51V V(RWM), Unidirectional, 1 Element, Silicon, DO-214AB; Manufacturer: Vishay; Package Body Material: Plastic; Additional Feature: EXCELLENT CLAMPING CAPABILITY; Max Breakdown Voltage: 62.7V; Min Breakdown Voltage: 56.7V; Non-rep Peak Rev Power Dis-Max: 5kW; Number of Elements: 1; Time @ Peak Reflow Temperature-Max (s): 30s; Reference Standard: IEC-61000-4-2; Supplier 1: Digi-Key; Manufacturer Part Number: SMC5K51A-M3/I; RoHS: Yes; Category: TVS Diodes; Stock 1: 764; Pricing 1: 1=0,94000, 10=0,84400, 100=0,65780, 500=0,54340, 1000=0,42900 (USD); Number of Pins: 2; Diode Element Material: SILICON; Package Shape: Rectangular; Terminal Finish: Tin; Min Operating Temperature: -55°C; Max Operating Temperature: 150°C; JESD-609 Code: e3; Polarity: Unidirectional; Diode Type: TRANS VOLTAGE SUPPRESSOR; JESD-30 Code: R-PDSO-C2; Moisture Sensitivity Level: 1; Package Style: SMALL OUTLINEMeter; Peak Reflow Temperature (Cel): 260°C; Rep Pk Reverse Voltage-Max: 51V; Surface Mount: Yes; Technology: AVALANCHE; Terminal Form: C BEND; Terminal Position: DUAL; JEDEC-95 Code: DO-214AB; REACH SVHC: No SVHC; RoHS Compliant: Yes; ComponentLink1URL: https://datasheet.ciiva.com:443/pdfs/VipMasterIC/IC/VISH/VISH-S-A0007266867/VISH-S-A0007266867-1.pdf?src-supplier=IHS+Markit; ComponentLink1Description: https://datasheet.ciiva.com:443/pdfs/VipMasterIC/IC/VISH/VISH-S-A0007266867/VISH-S-A0007266867-1.pdf?src-supplier=IHS+Markit; ComponentLink2URL: http://www.vishay.com/docs/87742/smc5k10a.pdf?src-supplier=Digi-Key; ComponentLink2Description: http://www.vishay.com/docs/87742/smc5k10a.pdf?src-supplier=Digi-Key; Supplier Part Number 1: SMC5K51A-M3/IGICT-ND
footprint Zener_51V (DO-214AB)
pins: 1 B, 2 A